# Altium schematic symbol library К155ИД1.SchLib: 1 symbol
Pins are listed as number, name and electrical type; pins without a type are passive.

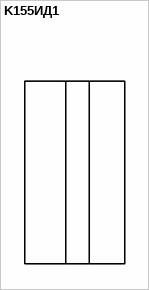
[diagram p0: symbol K155ИД1]

## K155ИД1
designator ?